# Altium schematic symbol library SCH - MOSFETS - PNP-SOT23.SCHLIB: 1 symbol
Pins are listed as number, name and electrical type; pins without a type are passive.

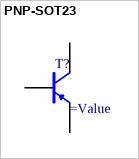
[diagram p0: symbol PNP-SOT23]

## PNP-SOT23
designator T?
MMBT3904
pins: 1 BASIS, 2 EMITTER, 3 COLLECTOR